# Altium footprint library Connectors.PcbLib: 5 footprints
Each footprint in its own frame and in the unit in brackets; x right, y up, seen from the top. Pads: shape width x height; smd on the part's side, far side on the other; paste and mask are expansions set on the pad; w line width, h text height; cw(c..) or ccw(c..) is an arc to the next point about the centre after c.
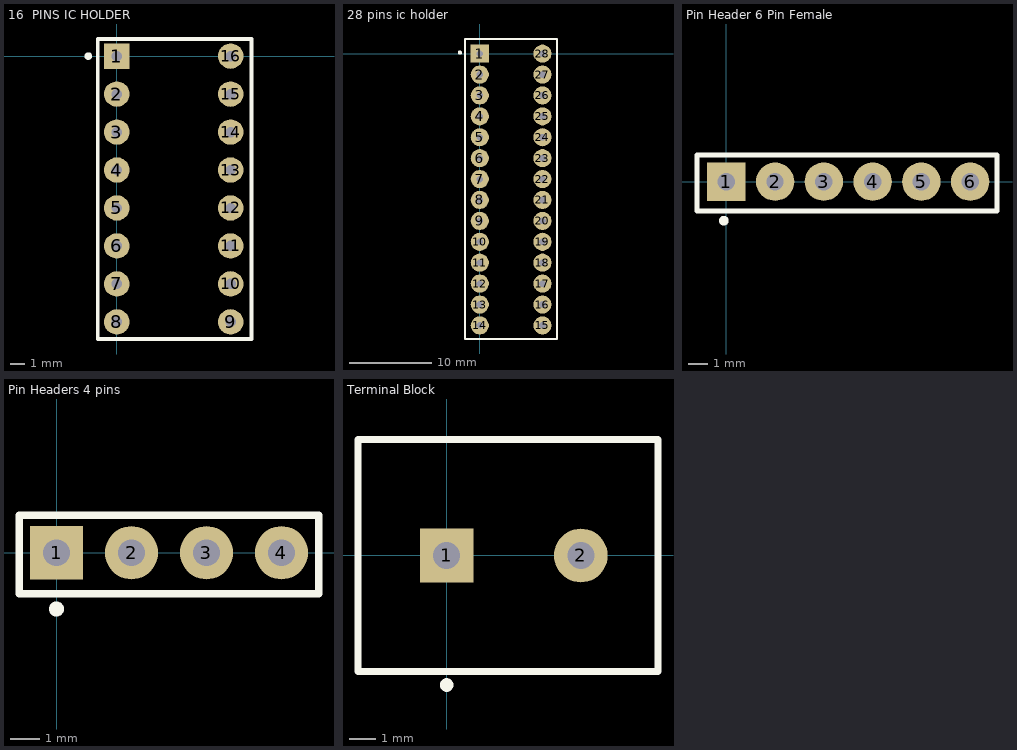
[diagram p0: the footprints below, top view; thin cyan lines are the x and y axes]

## 16  PINS IC HOLDER [mm]
pads (16):
  rect 1.7x1.7 hole 0.7: 1(0,0)
  round 1.7 hole 0.7: 2(0,-2.54) 3(0,-5.08) 4(0,-7.62) 5(0,-10.16) 6(0,-12.7) 7(0,-15.24) 8(0,-17.78) 9(7.62,-17.78) 10(7.62,-15.24) 11(7.62,-12.7) 12(7.62,-10.16) 13(7.62,-7.62) 14(7.62,-5.08) 15(7.62,-2.54) 16(7.62,0)
Top Overlay:
  circle w0.254: c-1.905,0 r0.127
  lines w0.254: -1.27,-18.923 9.017,-18.923 9.017,1.143 -1.27,1.143 -1.27,-18.923

## 28 pins ic holder [mm]
pads (28):
  rect 2.2x2.2 hole 0.8: 1(0,0)
  round 2.2 hole 0.8: 2(0,-2.54) 3(0,-5.08) 4(0,-7.62) 5(0,-10.16) 6(0,-12.7) 7(0,-15.24) 8(0,-17.78) 9(0,-20.32) 10(0,-22.86) 11(0,-25.4) 12(0,-27.94) 13(0,-30.48) 14(0,-33.02) 15(7.62,-33.02) 16(7.62,-30.48) 17(7.62,-27.94) 18(7.62,-25.4) 19(7.62,-22.86) 20(7.62,-20.32) 21(7.62,-17.78) 22(7.62,-15.24) 23(7.62,-12.7) 24(7.62,-10.16) 25(7.62,-7.62) 26(7.62,-5.08) 27(7.62,-2.54) 28(7.62,0)
Top Overlay:
  circle w0.254: c-2.413,0.127 r0.127
  lines w0.254: -1.778,-34.671 9.398,-34.671 9.398,1.778 -1.778,1.778 -1.778,-34.671
3D body "ED281DT--3DModel-STEP-56544.STEP": height 6.7, standoff -2, extent -1.28,-34.317 8.88,1.243

## Pin Header 6 Pin Female [mm]
pads (6):
  rect 2x2 hole 0.9: 1(0,0)
  round 2 hole 0.9: 2(2.54,0) 3(5.08,0) 4(7.62,0) 5(10.16,0) 6(12.7,0)
Top Overlay:
  circle w0.254: c-0.127,-2.032 r0.127
  lines w0.254: -1.524,-1.524 14.097,-1.524 14.097,1.397 -1.524,1.397 -1.524,-1.524
3D body "PPTC061LFBN-RC--3DModel-STEP-56544.STEP": height 8.51, standoff -3.2, extent -1.524,-1.27 14.224,1.27

## Pin Headers 4 pins [mm]
pads (4):
  rect 1.8x1.8 hole 0.9: 1(0,0)
  round 1.8 hole 0.9: 2(2.54,0) 3(5.08,0) 4(7.62,0)
Top Overlay:
  circle w0.254: c0,-1.905 r0.127
  lines w0.254: -1.27,-1.397 8.89,-1.397 8.89,1.27 -1.27,1.27 -1.27,-1.397

## Terminal Block [mm]
pads (2):
  rect 2x2 hole 1: 1(0,0)
  round 2 hole 1: 2(5,0)
Top Overlay:
  circle w0.254: c0,-4.826 r0.127
  lines w0.254: -3.302,-4.318 7.874,-4.318 7.874,4.318 -3.302,4.318 -3.302,-4.318
3D body "282836-2--3DModel-STEP-269445.STEP": height 10, standoff -3.5, extent -3.1,-4.1 7.5,4.1